# Altium footprint library 00SMD-R-C-L-Q.PCBLIB: 64 footprints (part 1 of 4)
Each footprint in its own frame and in the unit in brackets; x right, y up, seen from the top. Pads: shape width x height; smd on the part's side, far side on the other; paste and mask are expansions set on the pad; w line width, h text height; cw(c..) or ccw(c..) is an arc to the next point about the centre after c.
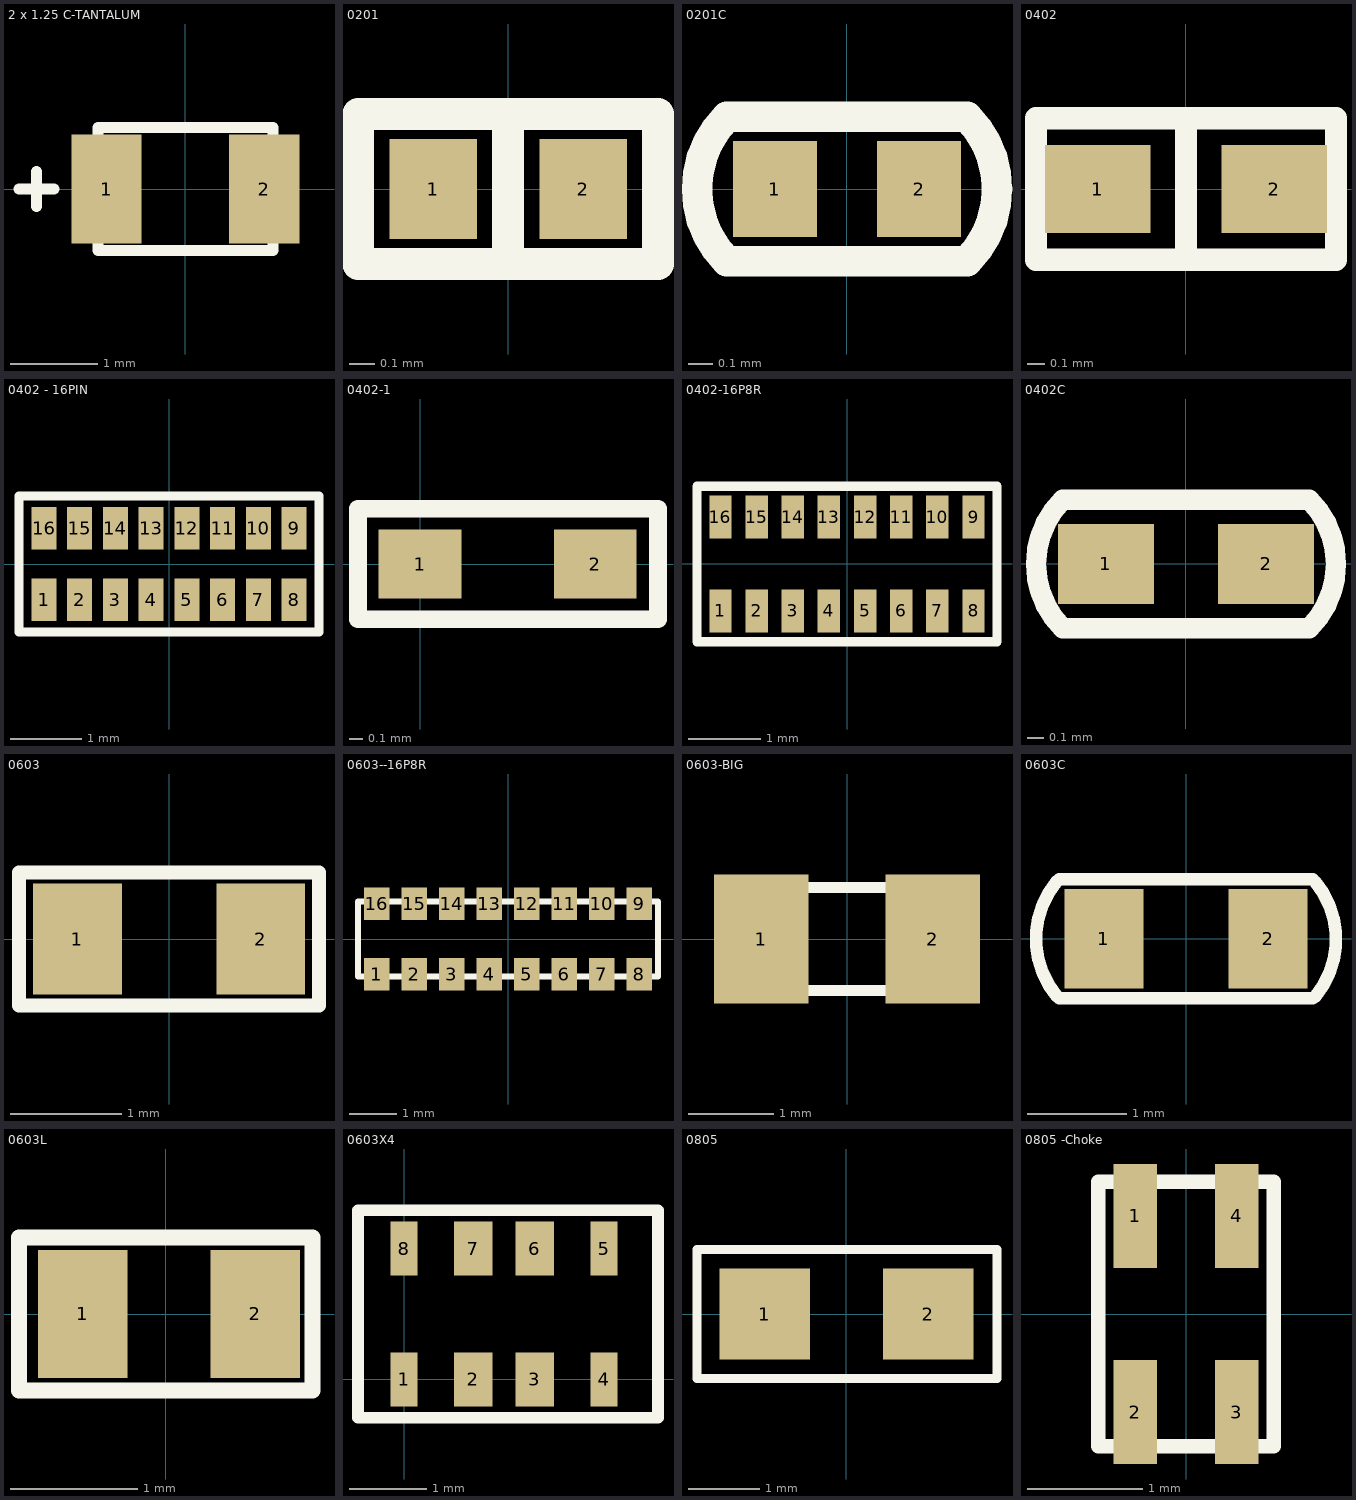
[diagram p0: the footprints below, top view; thin cyan lines are the x and y axes]

## 2 x 1.25 C-TANTALUM [mm] "2 x 1.25 C-TANTALUM"
pads (2):
  rect 0.8x1.25 smd: 1(-0.9,0) 2(0.9,0)
TopOverlay:
  lines w0.127: -1.9,0 -1.5,0 ; -1.7,-0.2 -1.7,0.2 ; -1,-0.7 1,-0.7 1,0.7 -1,0.7 -1,-0.7

## 0201 [mm]
pads (2):
  rect 0.35x0.4 smd: 1(-0.3,0) 2(0.3,0)
TopOverlay:
  lines w0.127: 0,-0.3 0,0.3 ; -0.6,-0.3 0.6,-0.3 0.6,0.3 -0.6,0.3 -0.6,-0.3

## 0201C [mm]
pads (2):
  rect 0.35x0.4 smd: 1(-0.3,0) 2(0.3,0)
TopOverlay:
  lines w0.127: -0.5,-0.3 cw(c-0.2,0) -0.5,0.3 0.5,0.3 cw(c0.2,0) 0.5,-0.3 -0.5,-0.3

## 0402 [mm]
pads (2):
  rect 0.6x0.5 smd: 1(-0.5,0) 2(0.5,0)
TopOverlay:
  lines w0.127: 0,-0.4 0,0.4 ; -0.85,-0.4 -0.85,0.4 0.85,0.4 0.85,-0.4 -0.85,-0.4

## 0402 - 16PIN [mm] "0402 - 16PIN"
pads (16):
  rect 0.35x0.6 smd: 1(-1.75,-0.5) 2(-1.25,-0.5) 3(-0.75,-0.5) 4(-0.25,-0.5) 5(0.25,-0.5) 6(0.75,-0.5) 7(1.25,-0.5) 8(1.75,-0.5) 9(1.75,0.5) 10(1.25,0.5) 11(0.75,0.5) 12(0.25,0.5) 13(-0.25,0.5) 14(-0.75,0.5) 15(-1.25,0.5) 16(-1.75,0.5)
TopOverlay:
  lines w0.127: -2.1,-0.95 -2.1,0.95 2.1,0.95 2.1,-0.95 -2.1,-0.95

## 0402-1 [mm]
pads (2):
  rect 0.6x0.5 smd: 1(0,0) 2(1.27,0)
TopOverlay:
  lines w0.127: -0.45,-0.4 1.725,-0.4 1.725,0.4 -0.45,0.4 -0.45,-0.4

## 0402-16P8R [mm] "0402-16P8R"
pads (16):
  rect 0.31x0.6 smd: 1(-1.75,-0.65) 2(-1.25,-0.65) 3(-0.75,-0.65) 4(-0.25,-0.65) 5(0.25,-0.65) 6(0.75,-0.65) 7(1.25,-0.65) 8(1.75,-0.65) 9(1.75,0.65) 10(1.25,0.65) 11(0.75,0.65) 12(0.25,0.65) 13(-0.25,0.65) 14(-0.75,0.65) 15(-1.25,0.65) 16(-1.75,0.65)
TopOverlay:
  lines w0.127: -2.075,-1.075 -2.075,1.075 2.075,1.075 2.075,-1.075 -2.075,-1.075

## 0402C [mm]
pads (2):
  rect 0.6x0.5 smd: 1(-0.5,0) 2(0.5,0)
TopOverlay:
  lines w0.127: -0.77,-0.4 cw(c-0.37,0) -0.77,0.4 0.77,0.4 cw(c0.37,0) 0.77,-0.4 -0.77,-0.4

## 0603 [mm]
pads (2):
  rect 0.8x1 smd: 1(-0.826,0) 2(0.826,0)
TopOverlay:
  lines w0.127: -1.351,-0.6 1.349,-0.6 1.349,0.6 -1.351,0.6 -1.351,-0.6

## 0603--16P8R [mm] "0603--16P8R"
pads (16):
  rect 0.55x0.7 smd: 1(-2.8,-0.75) 2(-2,-0.75) 3(-1.2,-0.75) 4(-0.4,-0.75) 5(0.4,-0.75) 6(1.2,-0.75) 7(2,-0.75) 8(2.8,-0.75) 9(2.8,0.75) 10(2,0.75) 11(1.2,0.75) 12(0.4,0.75) 13(-0.4,0.75) 14(-1.2,0.75) 15(-2,0.75) 16(-2.8,0.75)
TopOverlay:
  lines w0.127: -3.2,-0.8 -3.2,0.8 3.2,0.8 3.2,-0.8 -3.2,-0.8

## 0603-BIG [mm] "0603-BIG"
pads (2):
  rect 1.1x1.5 smd: 1(-1.001,0) 2(1.001,0)
TopOverlay:
  lines w0.127: -1.351,-0.6 1.349,-0.6 1.349,0.6 -1.351,0.6 -1.351,-0.6

## 0603C [mm]
pads (2):
  rect 0.8x1 smd: 1(-0.826,0) 2(0.826,0)
TopOverlay:
  lines w0.127: -1.299,-0.579 cw(c-0.61,0) -1.299,0.579 ; -1.275,0.6 1.274,0.6 ; -1.273,-0.599 1.276,-0.599 ; 1.299,-0.582 ccw(c0.61,-0.004) 1.299,0.575

## 0603L [mm] "0603L"
pads (2):
  rect 0.7x1 smd: 1(-0.65,0) 2(0.7,0)
TopOverlay:
  lines w0.127: -1.15,-0.6 -1.15,0.6 1.15,0.6 1.15,-0.6 -1.15,-0.6

## 0603X4 [mm]
pads (8):
  rect 0.35x0.7 smd: 1(0,0) 4(2.6,0) 5(2.6,1.7) 8(0,1.7)
  rect 0.5x0.7 smd: 2(0.9,0) 3(1.7,0) 6(1.7,1.7) 7(0.9,1.7)
TopOverlay:
  lines w0.152: -0.6,-0.5 3.3,-0.5 3.3,2.2 -0.6,2.2 -0.6,-0.5

## 0805 [mil]
pads (2):
  rect 50x50 smd: 1(-45,0) 2(45,0)
TopOverlay:
  lines w5: -82.4,-35.43 -82.4,35.43 82.95,35.43 82.95,-35.43 -82.4,-35.43

## 0805 -Choke [mm] "0805 -Choke"
pads (4):
  rect 0.38x0.9 smd: 1(-0.44,0.85) 2(-0.44,-0.85) 3(0.44,-0.85) 4(0.44,0.85)
TopOverlay:
  lines w0.127: -0.76,-1.145 -0.76,1.145 0.76,1.145 0.76,-1.145 -0.76,-1.145